# Altium schematic symbol library UCC3803D.SchLib: 1 symbol
Pins are listed as number, name and electrical type; pins without a type are passive.

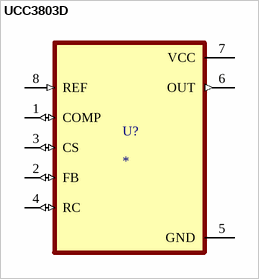
[diagram p0: symbol UCC3803D]

## UCC3803D
designator U?
MF: {'manufacturer': u'Texas Instruments'}; MP: UCC3803D; Package: None; Price: None; Value: *; Availability: Unavailable
footprint SOIC127P599X175-8N
pins: 1 COMP (io), 2 FB (io), 3 CS (io), 4 RC (io), 5 GND (power), 6 OUT (out), 7 VCC (power), 8 REF (in)